# EAGLE library part CH9294G (library chrontel)
Chrontel clock generator
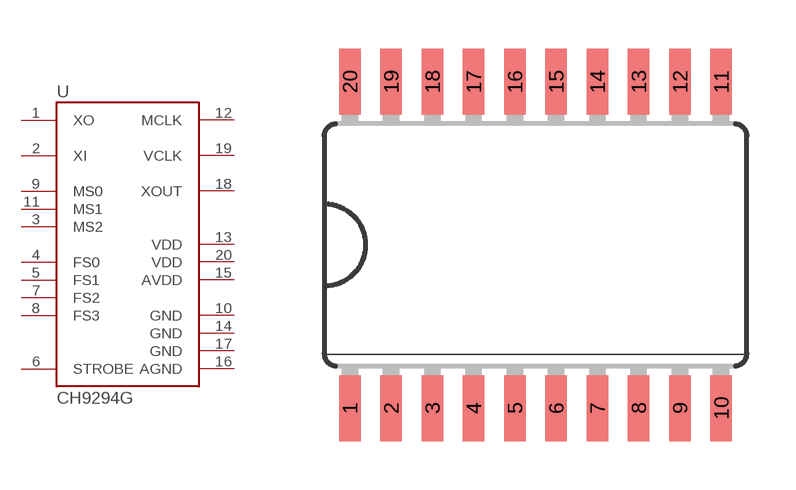
[diagram p0: symbol with the pads of SO20W; footprint SO20W]

Designator prefix U

## CH9294G  [SO20W]
1  XO  out
2  XI  in
3  MS2  in
4  FS0  in
5  FS1  in
6  STROBE  in
7  FS2  in
8  FS3  in
9  MS0  in
10  GND  in
11  MS1  in
12  MCLK  out
13  VDD  in
14  GND  in
15  AVDD  in
16  AGND  in
17  GND  in
18  XOUT  out
19  VCLK  out
20  VDD  in

## Footprint SO20W (pad centres in mm)
smd 0.66 x 2.032: 1 -5.715,-5.029; 2 -4.445,-5.029; 3 -3.175,-5.029; 4 -1.905,-5.029; 5 -0.635,-5.029; 6 0.635,-5.029; 7 1.905,-5.029; 8 3.175,-5.029; 9 4.445,-5.029; 10 5.715,-5.029; 11 5.715,5.029; 12 4.445,5.029; 13 3.175,5.029; 14 1.905,5.029; 15 0.635,5.029; 16 -0.635,5.029; 17 -1.905,5.029; 18 -3.175,5.029; 19 -4.445,5.029; 20 -5.715,5.029